# Altium footprint library #6_MH.PcbLib: 1 footprints
Each footprint in its own frame and in the unit in brackets; x right, y up, seen from the top. Pads: shape width x height; smd on the part's side, far side on the other; paste and mask are expansions set on the pad; w line width, h text height; cw(c..) or ccw(c..) is an arc to the next point about the centre after c.
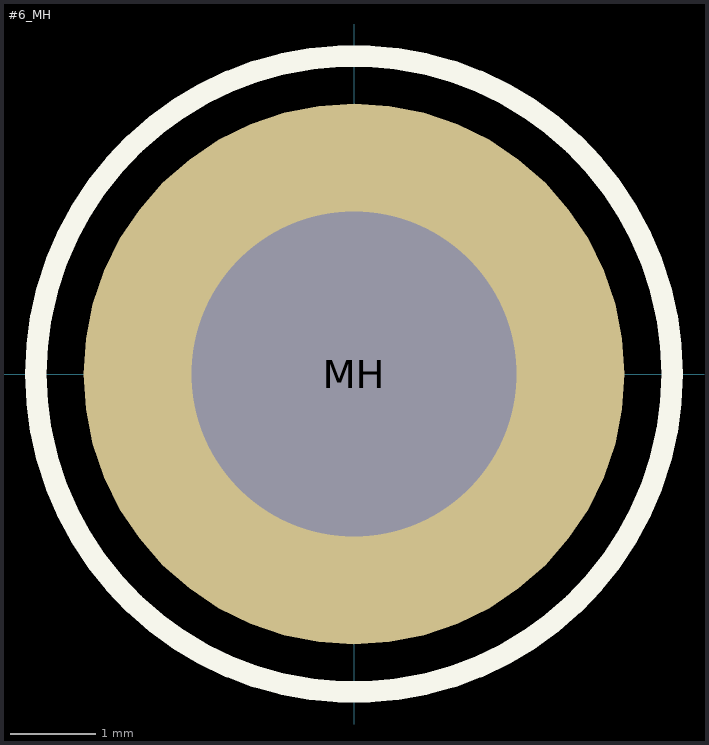
[diagram p0: the footprint, top view; thin cyan lines are the x and y axes]

## #6_MH [mm] "#6 Mounting Hole w/ 6-32 Hex Stand Off Clearance"
pads (1):
  round 6.35 hole 3.81: MH(0,0)
Top Overlay:
  circle w0.254: c0,0 r3.735
Bottom Overlay:
  circle w0.254: c0,0 r3.735